# Altium footprint library TO-220.PcbLib: 1 footprints
Each footprint in its own frame and in the unit in brackets; x right, y up, seen from the top. Pads: shape width x height; smd on the part's side, far side on the other; paste and mask are expansions set on the pad; w line width, h text height; cw(c..) or ccw(c..) is an arc to the next point about the centre after c.
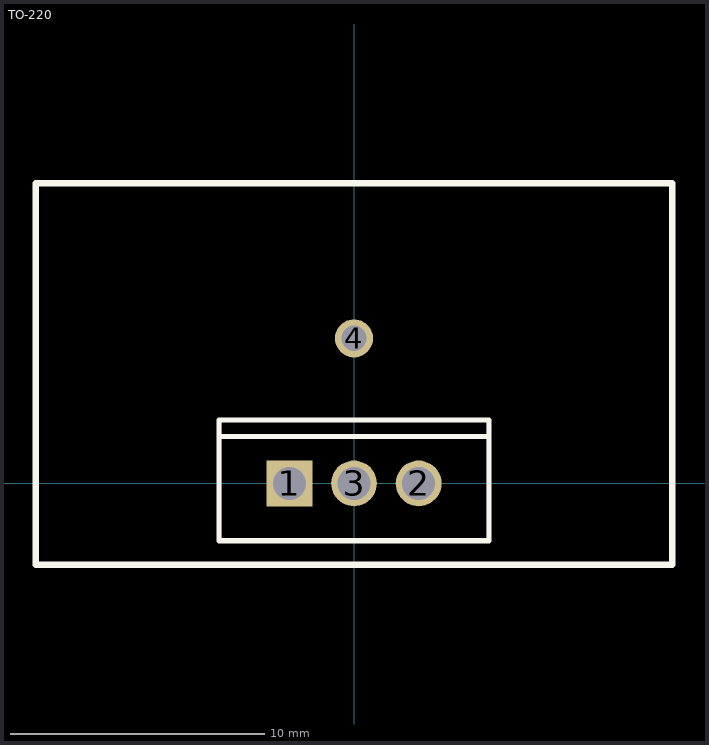
[diagram p0: the footprint, top view; thin cyan lines are the x and y axes]

## TO-220 [mm] "TO, Thru-Hole, Vertical, Heatsink Mounted; 3 In-Line Leads; Pitch 2.54 mm"
height 21.4
pads (4):
  rect 1.8x1.8 hole 1.3: 1(-2.54,0)
  round 1.8 hole 1.3: 2(2.54,0) 3(0,0)
  round 1.5 hole 1: 4(0,5.7)
Top Overlay:
  lines w0.2: -5.3,1.85 5.3,1.85 ; -5.3,-2.25 -5.3,2.5 5.3,2.5 5.3,-2.25 -5.3,-2.25
  lines w0.254: -12.5,-3.2 -12.5,11.8 12.5,11.8 12.5,-3.2 -12.5,-3.2
Mechanical 1:
  lines w0.1: -0.5,2.5 5.25,2.5 ; 5.25,2.5 -5.25,2.5 -5.25,-2.25 5.25,-2.25 5.25,2.5
3D body "TO-220.stp": height 26.5, standoff -8.2, extent -12.5,-3.25 12.5,11.75